# EAGLE library part EPM3256ATC144 (library Radicon)
ALTERA MAX 3000 EPM3256ATC144
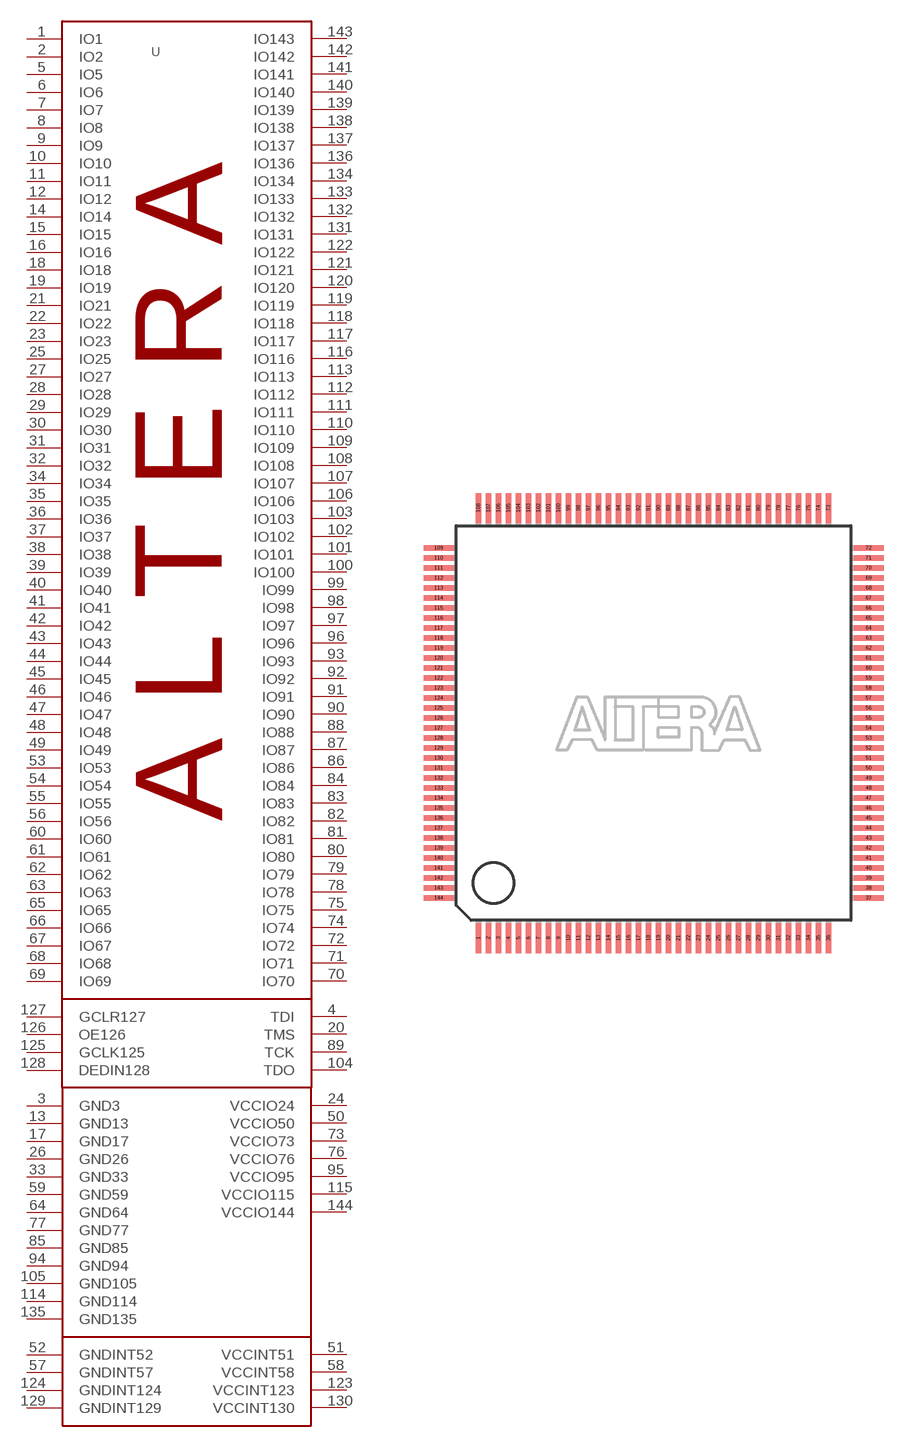
[diagram p4: symbol with the pads of TQFP144; footprint TQFP144]

Designator prefix U

## EPM3256ATC144  [TQFP144]
1  IO1
2  IO2
3  GND3
4  TDI
5  IO5
6  IO6
7  IO7
8  IO8
9  IO9
10  IO10
11  IO11
12  IO12
13  GND13
14  IO14
15  IO15
16  IO16
17  GND17
18  IO18
19  IO19
20  TMS
21  IO21
22  IO22
23  IO23
24  VCCIO24
25  IO25
26  GND26
27  IO27
28  IO28
29  IO29
30  IO30
31  IO31
32  IO32
33  GND33
34  IO34
35  IO35
36  IO36
37  IO37
38  IO38
39  IO39
40  IO40
41  IO41
42  IO42
43  IO43
44  IO44
45  IO45
46  IO46
47  IO47
48  IO48
49  IO49
50  VCCIO50
51  VCCINT51
52  GNDINT52
53  IO53
54  IO54
55  IO55
56  IO56
57  GNDINT57
58  VCCINT58
59  GND59
60  IO60
61  IO61
62  IO62
63  IO63
64  GND64
65  IO65
66  IO66
67  IO67
68  IO68
69  IO69
70  IO70
71  IO71
72  IO72
73  VCCIO73
74  IO74
75  IO75
76  VCCIO76
77  GND77
78  IO78
79  IO79
80  IO80
81  IO81
82  IO82
83  IO83
84  IO84
85  GND85
86  IO86
87  IO87
88  IO88
89  TCK
90  IO90
91  IO91
92  IO92
93  IO93
94  GND94
95  VCCIO95
96  IO96
97  IO97
98  IO98
99  IO99
100  IO100
101  IO101
102  IO102
103  IO103
104  TDO
105  GND105
106  IO106
107  IO107
108  IO108
109  IO109
110  IO110
111  IO111
112  IO112
113  IO113
114  GND114
115  VCCIO115
116  IO116
117  IO117
118  IO118
119  IO119
120  IO120
121  IO121
122  IO122
123  VCCINT123
124  GNDINT124
125  GCLK125
126  OE126
127  GCLR127
128  DEDIN128
129  GNDINT129
130  VCCINT130
131  IO131
132  IO132
133  IO133
134  IO134
135  GND135
136  IO136
137  IO137
138  IO138
139  IO139
140  IO140
141  IO141
142  IO142
143  IO143
144  VCCIO144

## Footprint TQFP144 (pad centres in mm)
Thin Quad Flat Pack
smd 0.27 x 1.5: 1 -8.75,-10.75; 2 -8.25,-10.75; 3 -7.75,-10.75; 4 -7.25,-10.75; 5 -6.75,-10.75; 6 -6.25,-10.75; 7 -5.75,-10.75; 8 -5.25,-10.75; 9 -4.75,-10.75; 10 -4.25,-10.75; 11 -3.75,-10.75; 12 -3.25,-10.75; 13 -2.75,-10.75; 14 -2.25,-10.75; 15 -1.75,-10.75; 16 -1.25,-10.75; 17 -0.75,-10.75; 18 -0.25,-10.75; 19 0.25,-10.75; 20 0.75,-10.75; 21 1.25,-10.75; 22 1.75,-10.75; 23 2.25,-10.75; 24 2.75,-10.75; 25 3.25,-10.75; 26 3.75,-10.75; 27 4.25,-10.75; 28 4.75,-10.75; 29 5.25,-10.75; 30 5.75,-10.75; 31 6.25,-10.75; 32 6.75,-10.75; 33 7.25,-10.75; 34 7.75,-10.75; 35 8.25,-10.75; 36 8.75,-10.75; 73 8.75,10.75; 74 8.25,10.75; 75 7.75,10.75; 76 7.25,10.75; 77 6.75,10.75; 78 6.25,10.75; 79 5.75,10.75; 80 5.25,10.75; 81 4.75,10.75; 82 4.25,10.75; 83 3.75,10.75; 84 3.25,10.75; 85 2.75,10.75; 86 2.25,10.75; 87 1.75,10.75; 88 1.25,10.75; 89 0.75,10.75; 90 0.25,10.75; 91 -0.25,10.75; 92 -0.75,10.75; 93 -1.25,10.75; 94 -1.75,10.75; 95 -2.25,10.75; 96 -2.75,10.75; 97 -3.25,10.75; 98 -3.75,10.75; 99 -4.25,10.75; 100 -4.75,10.75; 101 -5.25,10.75; 102 -5.75,10.75; 103 -6.25,10.75; 104 -6.75,10.75; 105 -7.25,10.75; 106 -7.75,10.75; 107 -8.25,10.75; 108 -8.75,10.75
smd 1.5 x 0.27: 37 10.75,-8.75; 38 10.75,-8.25; 39 10.75,-7.75; 40 10.75,-7.25; 41 10.75,-6.75; 42 10.75,-6.25; 43 10.75,-5.75; 44 10.75,-5.25; 45 10.75,-4.75; 46 10.75,-4.25; 47 10.75,-3.75; 48 10.75,-3.25; 49 10.75,-2.75; 50 10.75,-2.25; 51 10.75,-1.75; 52 10.75,-1.25; 53 10.75,-0.75; 54 10.75,-0.25; 55 10.75,0.25; 56 10.75,0.75; 57 10.75,1.25; 58 10.75,1.75; 59 10.75,2.25; 60 10.75,2.75; 61 10.75,3.25; 62 10.75,3.75; 63 10.75,4.25; 64 10.75,4.75; 65 10.75,5.25; 66 10.75,5.75; 67 10.75,6.25; 68 10.75,6.75; 69 10.75,7.25; 70 10.75,7.75; 71 10.75,8.25; 72 10.75,8.75; 109 -10.75,8.75; 110 -10.75,8.25; 111 -10.75,7.75; 112 -10.75,7.25; 113 -10.75,6.75; 114 -10.75,6.25; 115 -10.75,5.75; 116 -10.75,5.25; 117 -10.75,4.75; 118 -10.75,4.25; 119 -10.75,3.75; 120 -10.75,3.25; 121 -10.75,2.75; 122 -10.75,2.25; 123 -10.75,1.75; 124 -10.75,1.25; 125 -10.75,0.75; 126 -10.75,0.25; 127 -10.75,-0.25; 128 -10.75,-0.75; 129 -10.75,-1.25; 130 -10.75,-1.75; 131 -10.75,-2.25; 132 -10.75,-2.75; 133 -10.75,-3.25; 134 -10.75,-3.75; 135 -10.75,-4.25; 136 -10.75,-4.75; 137 -10.75,-5.25; 138 -10.75,-5.75; 139 -10.75,-6.25; 140 -10.75,-6.75; 141 -10.75,-7.25; 142 -10.75,-7.75; 143 -10.75,-8.25; 144 -10.75,-8.75